# Altium schematic symbol library ad-logic.SchLib: 2 symbols
Pins are listed as number, name and electrical type; pins without a type are passive.

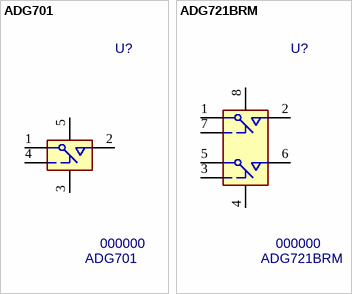
[diagram p0: symbols ADG701 to ADG721BRM]

## ADG701
designator U?, comment 000000  value ADG701
SPST Snalog Switch; PN: 000000; Package: SOT23-5; ExtraInfo: *
simulation model ADG701 (ADG701 ADG701L MACROMODEL)
pins: 1 D, 2 S, 3 GND (power), 4 IN, 5 VDD (power)
1 alternate drawing of the same symbol

## ADG721BRM
designator U?, comment 000000  value ADG721BRM
SPST Analog Switch 4Ohm; PN: 000000; Package: 8-MSOP; ExtraInfo: *
footprint MSOP-8 (8-MSOP)
simulation model ADG721 (ADG721 MACROMODEL)
pins: 1 S1, 2 D1, 3 IN2, 4 GND (power), 5 S2, 6 D2, 7 IN1, 8 VDD (power)
1 alternate drawing of the same symbol